# Altium footprint library PCB - CONNECTOR - GCT - GCT SIM8051-6-0-14-01-A.PcbLib: 1 footprints
Each footprint in its own frame and in the unit in brackets; x right, y up, seen from the top. Pads: shape width x height; smd on the part's side, far side on the other; paste and mask are expansions set on the pad; w line width, h text height; cw(c..) or ccw(c..) is an arc to the next point about the centre after c.
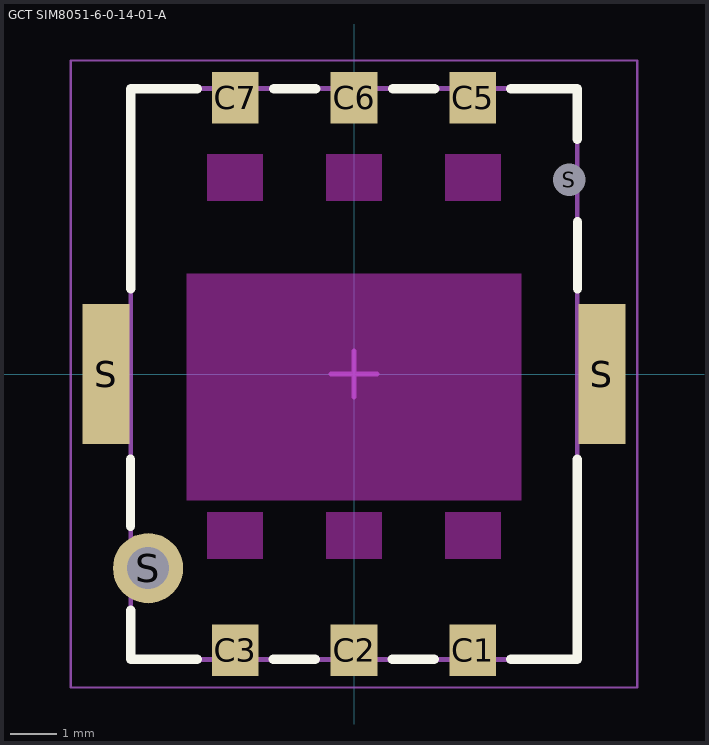
[diagram p0: the footprint, top view; thin cyan lines are the x and y axes]

## GCT SIM8051-6-0-14-01-A [mm] "Nano SIM Card Connector, Push-Pull Type, 6 Pin, SMT, Profile 1.35mm"
height 1.35
pads (10):
  rect 1x1.1 smd: C1(2.54,-5.9) C2(0,-5.9) C3(-2.54,-5.9) C5(2.54,5.9) C6(0,5.9) C7(-2.54,5.9)
  rect 1x3 smd: S(-5.3,0) S(5.3,0)
  round 1.5 hole 0.9: S(-4.4,-4.15)
  round 0.6 hole 0.7 unplated: S(4.6,4.15)
Top Layer keep-out:
  rectangle: 1.94,3.7 3.14,4.7
  rectangle: -0.6,3.7 0.6,4.7
  rectangle: -3.14,3.7 -1.94,4.7
  rectangle: -3.575,-2.7 3.575,2.15
  rectangle: -3.14,-3.95 -1.94,-2.95
  rectangle: -0.6,-3.95 0.6,-2.95
  rectangle: 1.94,-3.95 3.14,-2.95
Top Overlay:
  lines w0.2: -4.775,-3.25 -4.775,-1.825 ; -4.77,-5.05 -4.77,-6.1 -3.35,-6.1 ; -4.77,1.825 -4.77,6.1 -3.35,6.1 ; -1.725,-6.1 -0.825,-6.1 ; -1.715,6.1 -0.815,6.1 ; 0.815,-6.1 1.715,-6.1 ; 0.825,6.1 1.725,6.1 ; 3.35,-6.1 4.77,-6.1 4.77,-1.825 ; 3.35,6.1 4.77,6.1 4.77,5.02 ; 4.775,1.825 4.775,3.25
Mechanical 13:
  lines w0.1: -4.77,-6.1 -4.77,6.1 4.77,6.1 4.77,-6.1 -4.77,-6.1
Mechanical 15:
  lines w0.05: -6.05,-6.7 6.05,-6.7 6.05,6.7 -6.05,6.7 -6.05,-6.7
  lines w0.1: -0.5,0 0.5,0 ; 0,-0.5 0,0.5
3D body "GCT - SIM8051-6-0-14-01-A.step": height 1.35, standoff -0.4, extent -5.42,-6.1 5.42,6.1